# Altium footprint library PCB - LEADLESS - QFN - TI WQFN-FCRLF RZT0020A.PcbLib: 1 footprints
Each footprint in its own frame and in the unit in brackets; x right, y up, seen from the top. Pads: shape width x height; smd on the part's side, far side on the other; paste and mask are expansions set on the pad; w line width, h text height; cw(c..) or ccw(c..) is an arc to the next point about the centre after c.
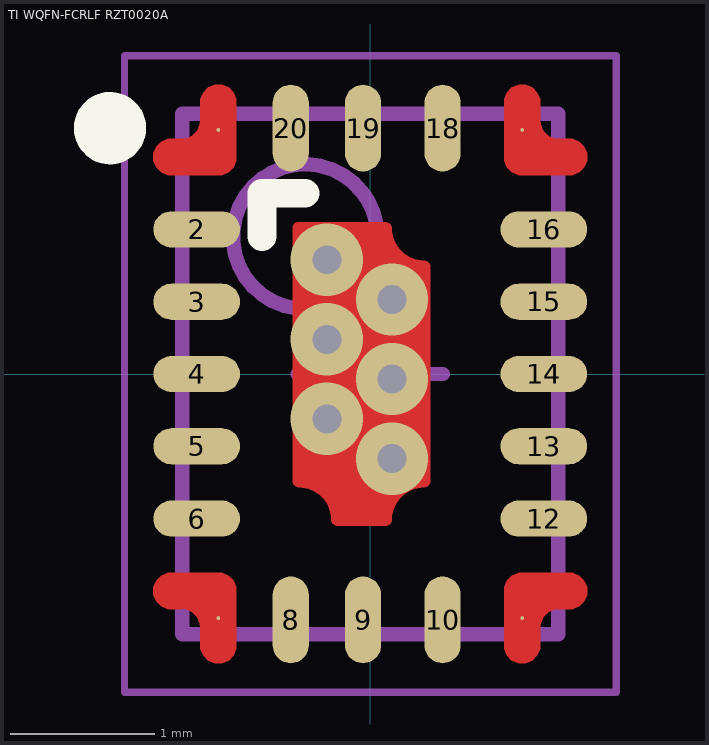
[diagram p0: the footprint, top view; thin cyan lines are the x and y axes]

## TI WQFN-FCRLF RZT0020A [mm] "WQFN, 20-Leads, Body 2.60x3.60mm, Pitch 0.50mm, Thermal Pad 0.95x2.10mm"
height 0.7
pads (21):
  round 0.025 smd: 1(-1.05,1.687) 7(-1.05,-1.687) 11(1.05,-1.687) 17(1.05,1.687) 21(-0.06,0)
  oval 0.6x0.25 smd: 2(-1.2,1) 3(-1.2,0.5) 4(-1.2,0) 5(-1.2,-0.5) 6(-1.2,-1) 12(1.2,-1) 13(1.2,-0.5) 14(1.2,0) 15(1.2,0.5) 16(1.2,1)
  oval 0.25x0.6 smd: 8(-0.55,-1.7) 9(-0.05,-1.7) 10(0.5,-1.7) 18(0.5,1.7) 19(-0.05,1.7) 20(-0.55,1.7)
via -0.3,-0.31 diameter 0.5 hole 0.2
via -0.3,0.24 diameter 0.5 hole 0.2
via -0.3,0.79 diameter 0.5 hole 0.2
via 0.15,-0.585 diameter 0.5 hole 0.2
via 0.15,-0.035 diameter 0.5 hole 0.2
via 0.15,0.515 diameter 0.5 hole 0.2
Top Layer:
  region: -0.492,-0.784 -0.47,-0.785 -0.427,-0.794 -0.387,-0.81 -0.351,-0.835 -0.32,-0.866 -0.295,-0.902 -0.279,-0.942 -0.27,-0.985 -0.269,-1.007 -0.269,-1.016 -0.262,-1.031 -0.25,-1.043 -0.235,-1.05 -0.226,-1.05 0.106,-1.05 0.115,-1.05 0.13,-1.043 0.142,-1.031 0.149,-1.016 0.149,-1.007 0.15,-0.985 0.159,-0.942 0.175,-0.902 0.2,-0.866 0.231,-0.835 0.267,-0.81 0.307,-0.794 0.35,-0.785 0.372,-0.784 0.381,-0.784 0.396,-0.777 0.408,-0.765 0.415,-0.75 0.415,-0.741 0.415,0.741 0.415,0.75 0.408,0.765 0.396,0.777 0.381,0.784 0.372,0.784 0.35,0.785 0.307,0.794 0.267,0.81 0.231,0.835 0.2,0.866 0.175,0.902 0.159,0.942 0.15,0.985 0.149,1.007 0.149,1.016 0.142,1.031 0.13,1.043 0.115,1.05 0.106,1.05 -0.5,1.05 -0.507,1.05 -0.52,1.045 -0.53,1.035 -0.535,1.022 -0.535,1.015 -0.535,-0.741 -0.535,-0.75 -0.528,-0.765 -0.516,-0.777 -0.501,-0.784
  region: 1.05,-2 1.075,-2 1.121,-1.981 1.156,-1.946 1.175,-1.9 1.175,-1.875 1.175,-1.75 1.177,-1.726 1.196,-1.681 1.231,-1.646 1.276,-1.627 1.3,-1.625 1.375,-1.625 1.4,-1.625 1.446,-1.606 1.481,-1.571 1.5,-1.525 1.5,-1.5 1.5,-1.475 1.481,-1.429 1.446,-1.394 1.4,-1.375 1.375,-1.375 1.05,-1.375 1.025,-1.375 0.979,-1.394 0.944,-1.429 0.925,-1.475 0.925,-1.5 0.925,-1.875 0.925,-1.9 0.944,-1.946 0.979,-1.981 1.025,-2
  region: -1.05,-2 -1.075,-2 -1.121,-1.981 -1.156,-1.946 -1.175,-1.9 -1.175,-1.875 -1.175,-1.75 -1.177,-1.726 -1.196,-1.681 -1.231,-1.646 -1.276,-1.627 -1.3,-1.625 -1.375,-1.625 -1.4,-1.625 -1.446,-1.606 -1.481,-1.571 -1.5,-1.525 -1.5,-1.5 -1.5,-1.475 -1.481,-1.429 -1.446,-1.394 -1.4,-1.375 -1.375,-1.375 -1.05,-1.375 -1.025,-1.375 -0.979,-1.394 -0.944,-1.429 -0.925,-1.475 -0.925,-1.5 -0.925,-1.875 -0.925,-1.9 -0.944,-1.946 -0.979,-1.981 -1.025,-2
  region: 1.05,2 1.075,2 1.121,1.981 1.156,1.946 1.175,1.9 1.175,1.875 1.175,1.75 1.177,1.726 1.196,1.681 1.231,1.646 1.276,1.627 1.3,1.625 1.375,1.625 1.4,1.625 1.446,1.606 1.481,1.571 1.5,1.525 1.5,1.5 1.5,1.475 1.481,1.429 1.446,1.394 1.4,1.375 1.375,1.375 1.05,1.375 1.025,1.375 0.979,1.394 0.944,1.429 0.925,1.475 0.925,1.5 0.925,1.875 0.925,1.9 0.944,1.946 0.979,1.981 1.025,2
  region: -1.05,2 -1.075,2 -1.121,1.981 -1.156,1.946 -1.175,1.9 -1.175,1.875 -1.175,1.75 -1.177,1.726 -1.196,1.681 -1.231,1.646 -1.276,1.627 -1.3,1.625 -1.375,1.625 -1.4,1.625 -1.446,1.606 -1.481,1.571 -1.5,1.525 -1.5,1.5 -1.5,1.475 -1.481,1.429 -1.446,1.394 -1.4,1.375 -1.375,1.375 -1.05,1.375 -1.025,1.375 -0.979,1.394 -0.944,1.429 -0.925,1.475 -0.925,1.5 -0.925,1.875 -0.925,1.9 -0.944,1.946 -0.979,1.981 -1.025,2
Top Overlay:
  circle w0.25: c-1.8,1.7 r0.125
  lines w0.2: -0.75,0.95 -0.75,1.25 -0.45,1.25
Mechanical 13:
  circle w0.1: c-0.45,0.95 r0.5
  lines w0.1: -1.3,-1.8 1.3,-1.8 1.3,1.8 -1.3,1.8 -1.3,-1.8
Mechanical 15:
  lines w0.05: -1.7,-2.2 1.7,-2.2 1.7,2.2 -1.7,2.2 -1.7,-2.2
  lines w0.1: -0.5,0 0.5,0 ; 0,-0.5 0,0.5
3D body "TI WQFN-FCRLF RZT0020A.step": height 0.7, standoff 0, extent -1.31,-1.81 1.31,1.81